# Altium footprint library IPC-7353 SOP_80P_L.PcbLib: 1 footprints
Each footprint in its own frame and in the unit in brackets; x right, y up, seen from the top. Pads: shape width x height; smd on the part's side, far side on the other; paste and mask are expansions set on the pad; w line width, h text height; cw(c..) or ccw(c..) is an arc to the next point about the centre after c.
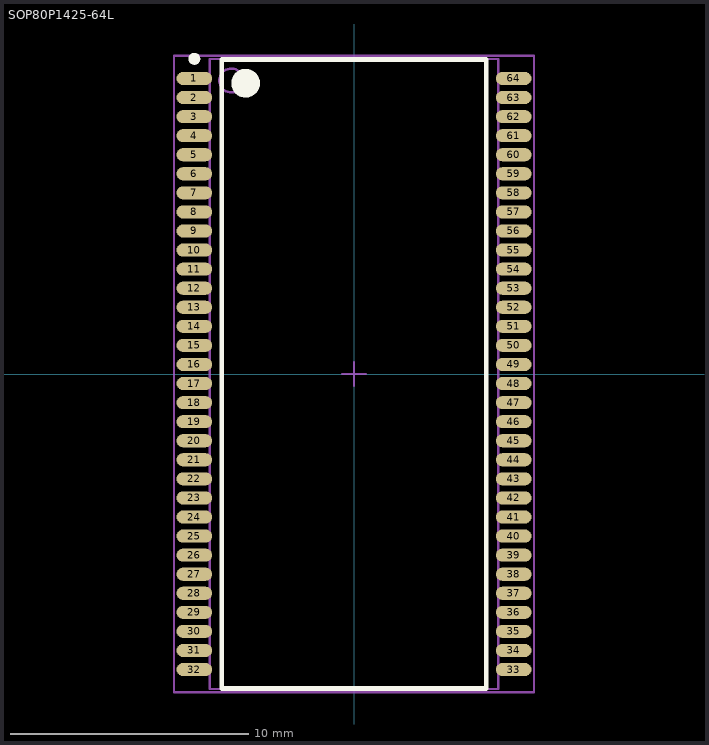
[diagram p0: the footprint, top view; thin cyan lines are the x and y axes]

## SOP80P1425-64L [mm] "SOP, 64-Leads, Body 26.4x12.1mm, Pitch 0.8mm, IPC High Density"
height 2.38
pads (64):
  oval 1.5x0.55 smd: 1(-6.7,12.4) 2(-6.7,11.6) 3(-6.7,10.8) 4(-6.7,10) 5(-6.7,9.2) 6(-6.7,8.4) 7(-6.7,7.6) 8(-6.7,6.8) 9(-6.7,6) 10(-6.7,5.2) 11(-6.7,4.4) 12(-6.7,3.6) 13(-6.7,2.8) 14(-6.7,2) 15(-6.7,1.2) 16(-6.7,0.4) 17(-6.7,-0.4) 18(-6.7,-1.2) 19(-6.7,-2) 20(-6.7,-2.8) 21(-6.7,-3.6) 22(-6.7,-4.4) 23(-6.7,-5.2) 24(-6.7,-6) 25(-6.7,-6.8) 26(-6.7,-7.6) 27(-6.7,-8.4) 28(-6.7,-9.2) 29(-6.7,-10) 30(-6.7,-10.8) 31(-6.7,-11.6) 32(-6.7,-12.4) 33(6.7,-12.4) 34(6.7,-11.6) 35(6.7,-10.8) 36(6.7,-10) 37(6.7,-9.2) 38(6.7,-8.4) 39(6.7,-7.6) 40(6.7,-6.8) 41(6.7,-6) 42(6.7,-5.2) 43(6.7,-4.4) 44(6.7,-3.6) 45(6.7,-2.8) 46(6.7,-2) 47(6.7,-1.2) 48(6.7,-0.4) 49(6.7,0.4) 50(6.7,1.2) 51(6.7,2) 52(6.7,2.8) 53(6.7,3.6) 54(6.7,4.4) 55(6.7,5.2) 56(6.7,6) 57(6.7,6.8) 58(6.7,7.6) 59(6.7,8.4) 60(6.7,9.2) 61(6.7,10) 62(6.7,10.8) 63(6.7,11.6) 64(6.7,12.4)
Top Overlay:
  circle w0.25: c-6.7,13.225 r0.125
  circle w0.6: c-4.55,12.2 r0.3
  lines w0.2: -5.55,-13.2 -5.55,13.2 5.55,13.2 5.55,-13.2 -5.55,-13.2
Mechanical 13:
  circle w0.1: c-5.15,12.315 r0.5
  lines w0.1: -6.05,-13.215 -6.05,13.215 6.05,13.215 6.05,-13.215 -6.05,-13.215
Mechanical 15:
  lines w0.1: -0.5,0 0.5,0 ; 0,-0.5 0,0.5 ; -7.55,-13.35 -7.55,13.35 7.55,13.35 7.55,-13.35 -7.55,-13.35
3D body: height 2.38, standoff 0, extent -6.05,-13.215 6.05,13.215